# EAGLE library part SSM2164 (library ssm2164)
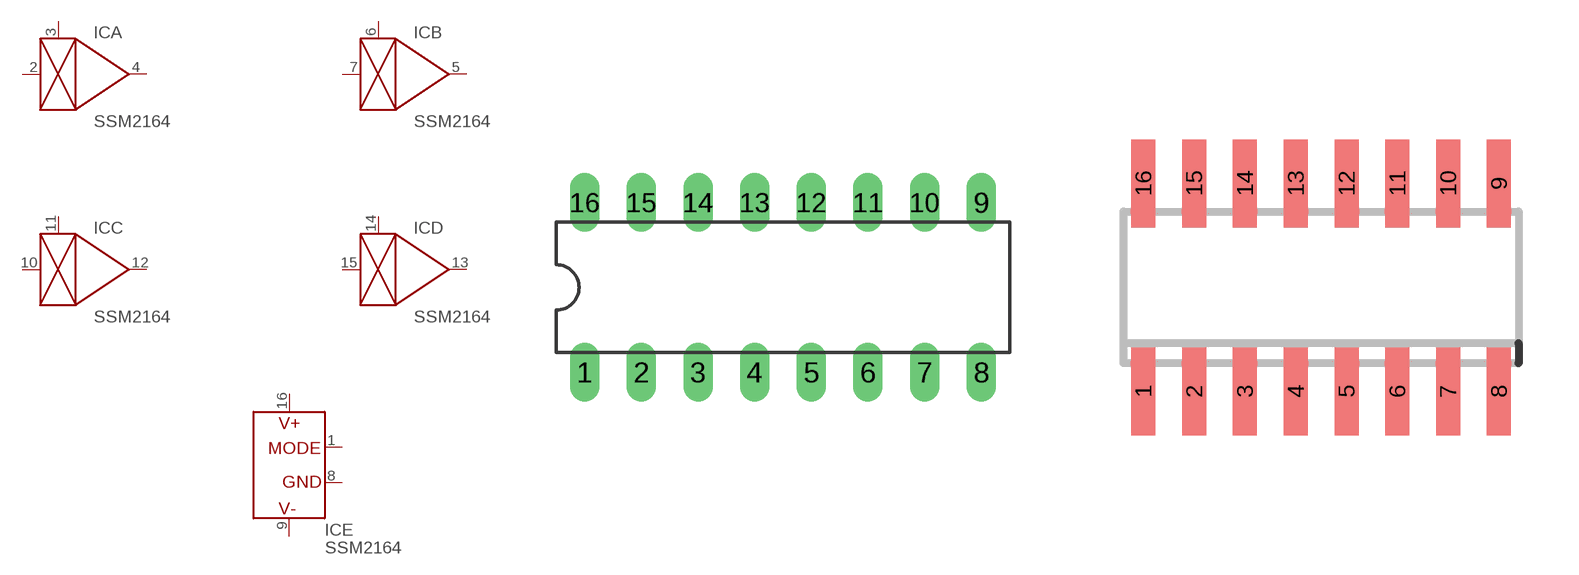
[diagram p0: symbol with the pads of DIL16; footprints DIL16, SOIC16N]

Designator prefix IC; gates A=GAINCELL B=GAINCELL C=GAINCELL D=GAINCELL E=VCCBLK

## SSM2164P  [DIL16]
1  E:MODE  in
2  A:IN  in
3  A:CTRL  in
4  A:OUT  out
5  B:OUT  out
6  B:CTRL  in
7  B:IN  in
8  E:GND  pwr
9  E:V-  pwr
10  C:IN  in
11  C:CTRL  in
12  C:OUT  out
13  D:OUT  out
14  D:CTRL  in
15  D:IN  in
16  E:V+  pwr

## SSM2164S  [SOIC16N]
Pads as for DIL16

## Footprint DIL16 (pad centres in mm)
drill 0.813 long: 1 -8.89,-3.81; 2 -6.35,-3.81; 3 -3.81,-3.81; 4 -1.27,-3.81; 5 1.27,-3.81; 6 3.81,-3.81; 7 6.35,-3.81; 8 8.89,-3.81; 9 8.89,3.81; 10 6.35,3.81; 11 3.81,3.81; 12 1.27,3.81; 13 -1.27,3.81; 14 -3.81,3.81; 15 -6.35,3.81; 16 -8.89,3.81

## Footprint SOIC16N (pad centres in mm)
smd 0.6 x 2.2: 1 -4.445,-2.6; 2 -3.175,-2.6; 3 -1.905,-2.6; 4 -0.635,-2.6; 5 0.635,-2.6; 6 1.905,-2.6; 7 3.175,-2.6; 8 4.445,-2.6; 9 4.445,2.6; 10 3.175,2.6; 11 1.905,2.6; 12 0.635,2.6; 13 -0.635,2.6; 14 -1.905,2.6; 15 -3.175,2.6; 16 -4.445,2.6